# EAGLE library part CON-3M_2516- (library power_v2)
3M (TM) Pak 100 4-Wall Header Source: 3M
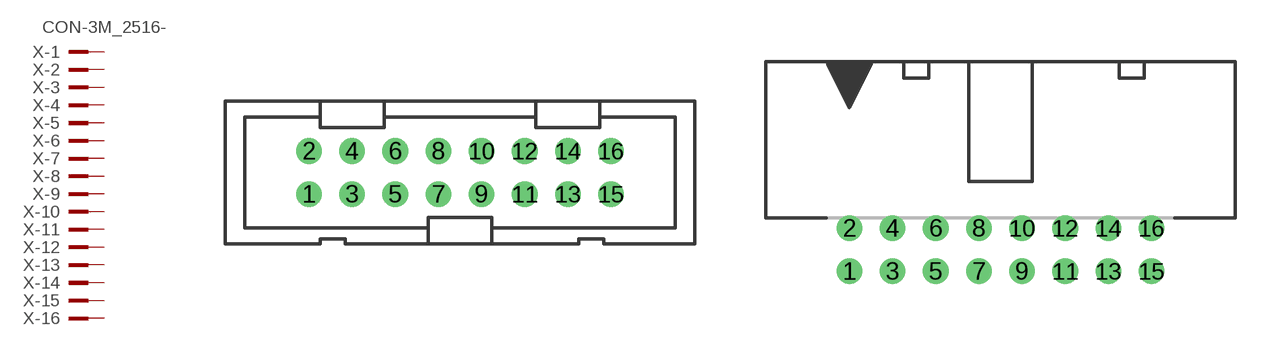
[diagram p0: symbol with the pads of CON-3M_PAK100/2500-16; footprints CON-3M_PAK100/2500-16, CON-3M_PAK100/2500-5-16]

Designator prefix X; gates -1=CON-3M_PINV -2=CON-3M_PIN -3=CON-3M_PIN -4=CON-3M_PIN -5=CON-3M_PIN -6=CON-3M_PIN -7=CON-3M_PIN -8=CON-3M_PIN -9=CON-3M_PIN -10=CON-3M_PIN -11=CON-3M_PIN -12=CON-3M_PIN -13=CON-3M_PIN -14=CON-3M_PIN -15=CON-3M_PIN -16=CON-3M_PIN

## CON-3M_2516- (OC_FARNELL: unknown; OC_NEWARK: unknown)  [CON-3M_PAK100/2500-16]
1  -1:KL  pas
2  -2:KL  pas
3  -3:KL  pas
4  -4:KL  pas
5  -5:KL  pas
6  -6:KL  pas
7  -7:KL  pas
8  -8:KL  pas
9  -9:KL  pas
10  -10:KL  pas
11  -11:KL  pas
12  -12:KL  pas
13  -13:KL  pas
14  -14:KL  pas
15  -15:KL  pas
16  -16:KL  pas

## CON-3M_2516-5 (MPN: D2516-5002-AR; OC_FARNELL: 9838376; OC_NEWARK: 12P7055)  [CON-3M_PAK100/2500-5-16]
Pads as for CON-3M_PAK100/2500-16

## Footprint CON-3M_PAK100/2500-16 (pad centres in mm)
3M (TM) Pak 100 4-Wall Header Straight Source: 3M
drill 1 pad 1.422: 1 -8.89,-1.27; 2 -8.89,1.27; 3 -6.35,-1.27; 4 -6.35,1.27; 5 -3.81,-1.27; 6 -3.81,1.27; 7 -1.27,-1.27; 8 -1.27,1.27; 9 1.27,-1.27; 10 1.27,1.27; 11 3.81,-1.27; 12 3.81,1.27; 13 6.35,-1.27; 14 6.35,1.27; 15 8.89,-1.27; 16 8.89,1.27

## Footprint CON-3M_PAK100/2500-5-16 (pad centres in mm)
3M (TM) Pak 100 4-Wall Header Right Angle Source: 3M
drill 1 pad 1.422: 1 -8.89,-1.27; 2 -8.89,1.27; 3 -6.35,-1.27; 4 -6.35,1.27; 5 -3.81,-1.27; 6 -3.81,1.27; 7 -1.27,-1.27; 8 -1.27,1.27; 9 1.27,-1.27; 10 1.27,1.27; 11 3.81,-1.27; 12 3.81,1.27; 13 6.35,-1.27; 14 6.35,1.27; 15 8.89,-1.27; 16 8.89,1.27